# Altium schematic symbol library MAX14661ETI+.SchLib: 1 symbol
Pins are listed as number, name and electrical type; pins without a type are passive.

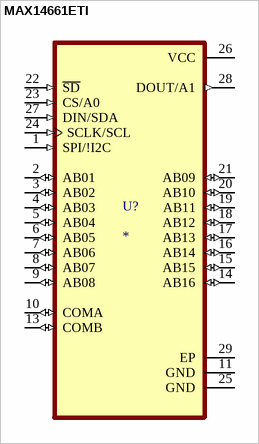
[diagram p0: symbol MAX14661ETI]

## MAX14661ETI
designator U?
None; MP: MAX14661ETI; MF: {'manufacturer': u'Maxim Integrated'}; Price: None; Availability: Unavailable; Value: *; Package: None
footprint QFN40P400X400X80-29N
pins: 1 SPI/!I2C (in), 2 AB01 (io), 3 AB02 (io), 4 AB03 (io), 5 AB04 (io), 6 AB05 (io), 7 AB06 (io), 8 AB07 (io), 9 AB08 (io), 10 COMA (io), 11 GND (power), 13 COMB (io), 14 AB16 (io), 15 AB15 (io), 16 AB14 (io), 17 AB13 (io), 18 AB12 (io), 19 AB11 (io), 20 AB10 (io), 21 AB09 (io), 22 ~{SD} (in), 23 CS/A0 (in), 24 SCLK/SCL (in), 25 GND (power), 26 VCC (power), 27 DIN/SDA (in), 28 DOUT/A1 (out), 29 EP (power)